# EAGLE library part XH_7POS_DEV (library blizzard_common_1)
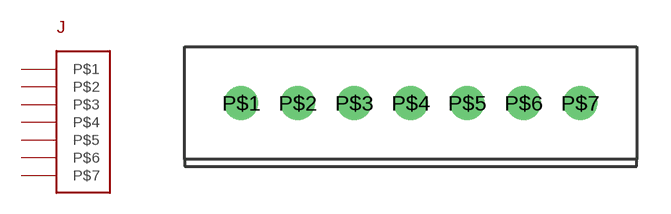
[diagram p4: symbol with the pads of XH_7POS_PKG; footprint XH_7POS_PKG]

Designator prefix J

## XH_7POS_DEV  [XH_7POS_PKG]
P$1  P$1
P$2  P$2
P$3  P$3
P$4  P$4
P$5  P$5
P$6  P$6
P$7  P$7

## Footprint XH_7POS_PKG (pad centres in mm)
drill 1: P$1 -7.5,0; P$2 -5,0; P$3 -2.5,0; P$4 0,0; P$5 2.5,0; P$6 5,0; P$7 7.5,0